# EAGLE library part 74HC4067 (library monitor-parts)
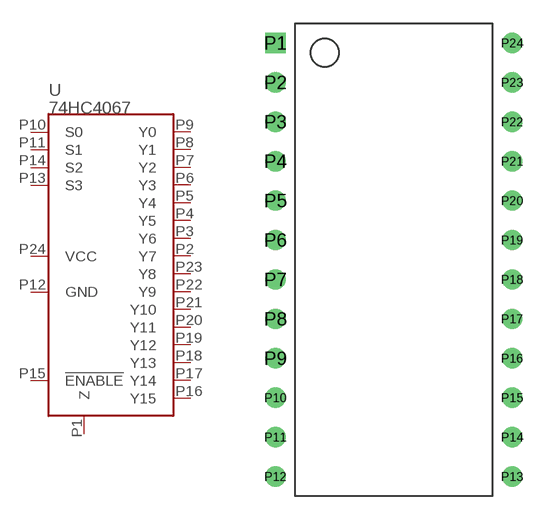
[diagram p0: symbol with the pads of DIP-24; footprint DIP-24]

Designator prefix -

## 74HC4067  [DIP-24]
P1  Z
P2  Y7
P3  Y6
P4  Y5
P5  Y4
P6  Y3
P7  Y2
P8  Y1
P9  Y0
P10  S0
P11  S1
P12  GND  pwr
P13  S3
P14  S2
P15  !ENABLE!
P16  Y15
P17  Y14
P18  Y13
P19  Y12
P20  Y11
P21  Y10
P22  Y9
P23  Y8
P24  VCC  pwr

## Footprint DIP-24 (pad centres in mm)
drill 0.8 square: P1 -7.62,13.97
drill 0.8: P2 -7.62,11.43; P3 -7.62,8.89; P4 -7.62,6.35; P5 -7.62,3.81; P6 -7.62,1.27; P7 -7.62,-1.27; P8 -7.62,-3.81; P9 -7.62,-6.35; P10 -7.62,-8.89; P11 -7.62,-11.43; P12 -7.62,-13.97; P13 7.62,-13.97; P14 7.62,-11.43; P15 7.62,-8.89; P16 7.62,-6.35; P17 7.62,-3.81; P18 7.62,-1.27; P19 7.62,1.27; P20 7.62,3.81; P21 7.62,6.35; P22 7.62,8.89; P23 7.62,11.43; P24 7.62,13.97